# EAGLE library part SSR_M_HALF (library Solid-State-Relay_Module)
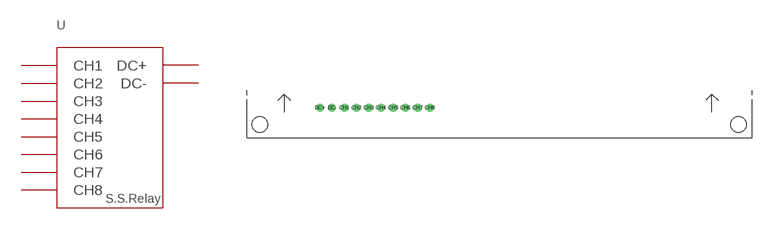
[diagram p1: symbol with the pads of SSR_M_HALF-BOARD; footprint SSR_M_HALF-BOARD]

Designator prefix -

## SSR_M_HALF  [SSR_M_HALF-BOARD]
CH1  CH1
CH2  CH2
CH3  CH3
CH4  CH4
CH5  CH5
CH6  CH6
CH7  CH7
CH8  CH8
DC+  DC+
DC-  DC-

## Footprint SSR_M_HALF-BOARD (pad centres in mm)
drill 1 pad 1.7: CH1 17.58,3.5; CH2 20.12,3.5; CH3 22.66,3.5; CH4 25.2,3.5; CH5 27.74,3.5; CH6 30.28,3.5; CH7 32.82,3.5; CH8 35.36,3.5; DC+ 12.5,3.5; DC- 15.04,3.5
hole 3.2 at 0,0
hole 3.2 at 99.5,0